# Altium integrated library Silicon Labs Capacitive Touch Sense MCUs.IntLib: 96 symbols (part 5 of 5)
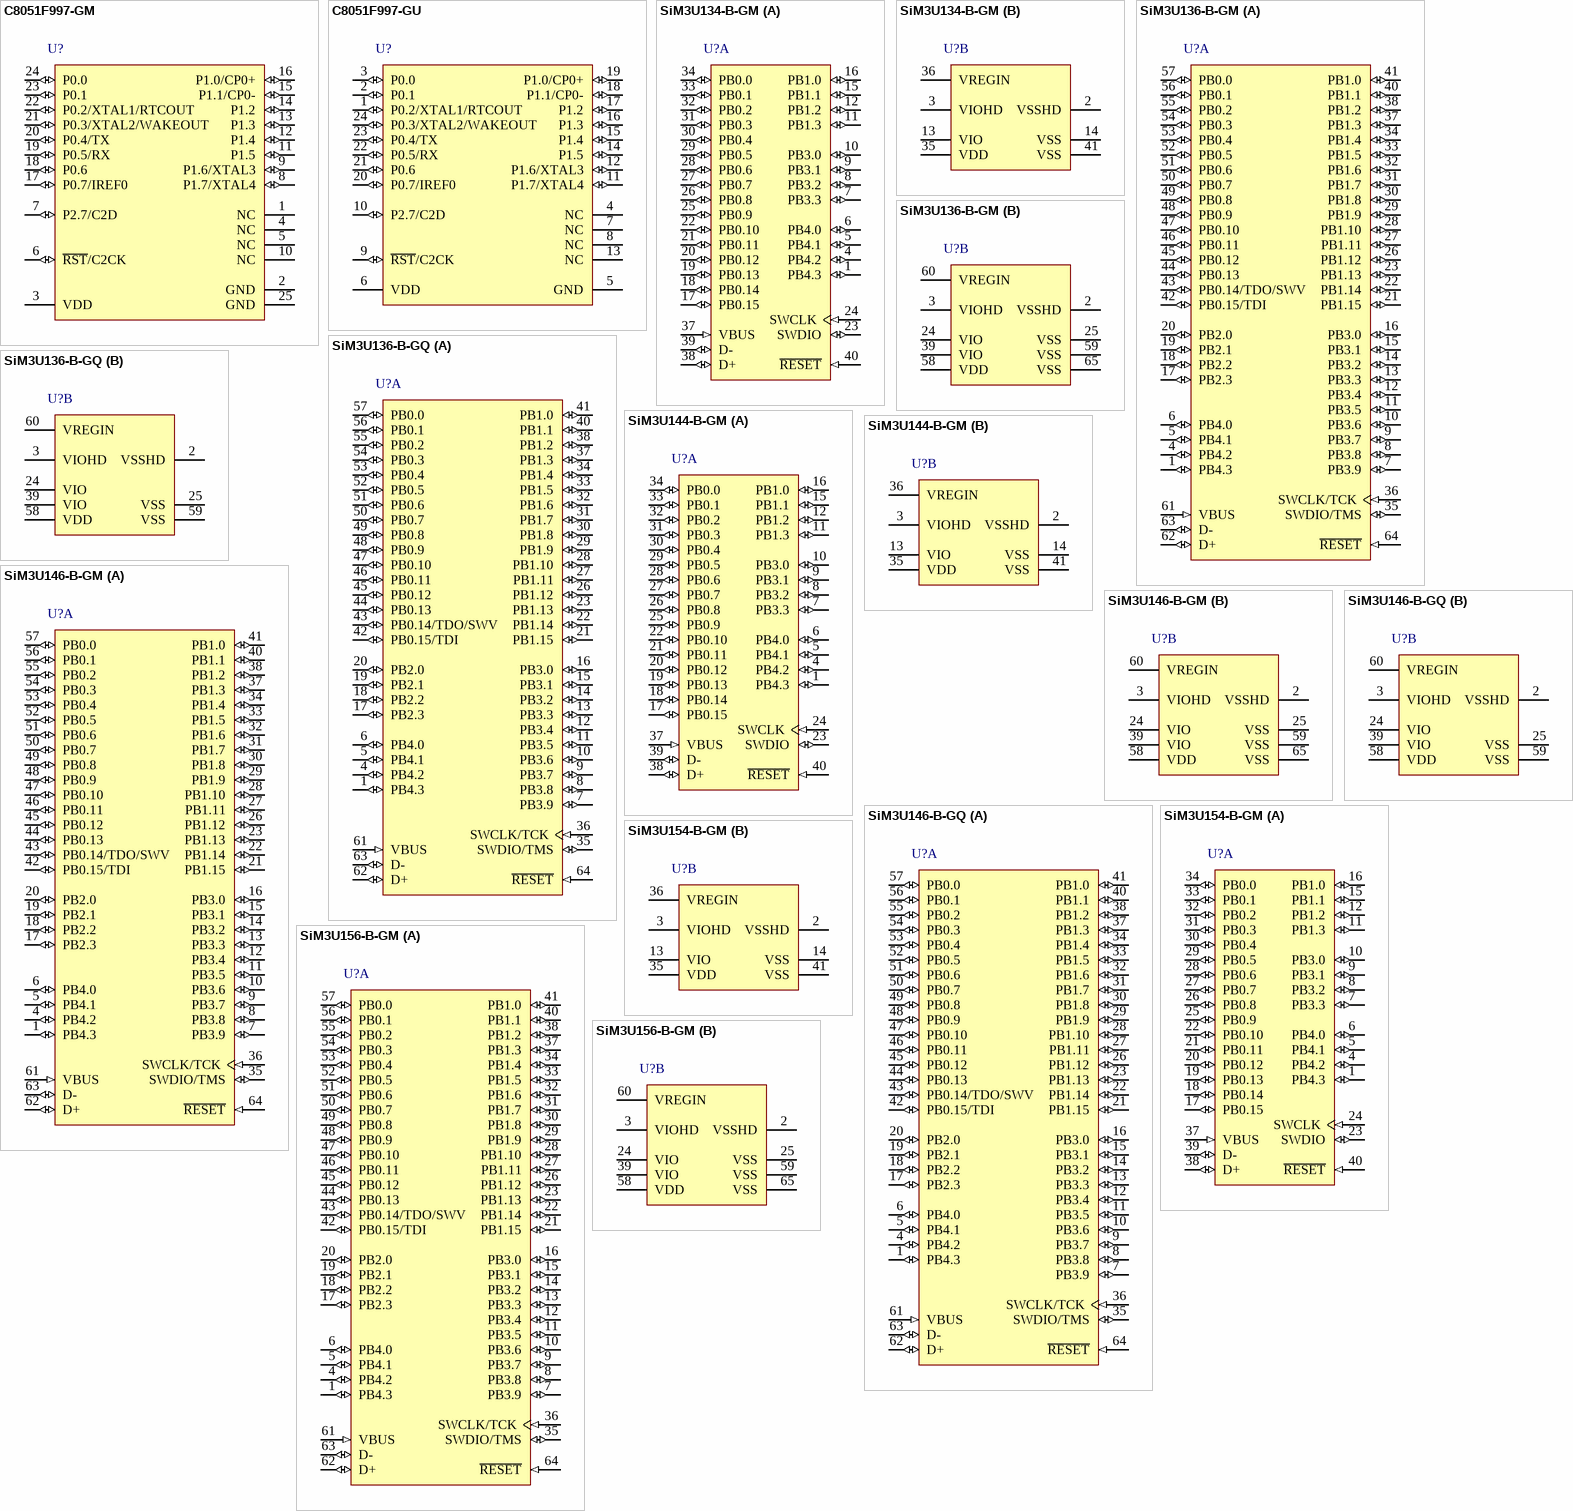
[diagram p10: symbols C8051F997-GM to SiM3U156-B-GM]

## SiM3U134-B-GM
designator U?
High-Performance, Low-Power, 32-Bit Precision32(TM) USB MCU Family, 80 MHz, 8 kB RAM, 32 kB Flash, -40 to 85 degC, 40-pin QFN; Manufacturer: Silicon Labs; PartNumber: SiM3U134-B-GM; ADC 1: 12-bit, 7-ch., 250 ksps; ADC 2: 12-bit, 11-ch., 250 ksps; Comparators: 2; DAC: 10-bit, 2-ch.; Debug Interface: SW; Dig I/O Pins: 28; Flash: 32 kB; Internal Osc. Accuracy: +/-1.5%; MCU Core: ARM Cortex-M3; MHz: 80; PCA Channels: 10; RAM: 8 kB; Temp Sensor: TRUE; Timers (16-bit): 5; Sub-Family: Capacitive Touch Sense MCUs; DatasheetVersion: Rev. 1.0; PackageReference: QFN-40; PackageDescription: 40-Pin Quad-Flat No-Leads Package, Body 6 x 6 mm, Pitch 0.5 mm; Supplier 1: Digi-Key; Supplier Part Number 1: 336-2202-ND; Supplier 2: Mouser; Supplier Part Number 2: 634-SIM3U134-B-GM; Mounting Technology: Surface Mount; Code_JEDEC: MO-220; Code_IPC: J-STD-020; ComponentLink1Description: Manufacturer URL; ComponentLink1URL: http://www.silabs.com/; ComponentLink2Description: Datasheet; ComponentLink2URL: http://www.silabs.com/Support Documents/TechnicalDocs/SiM3U1xx.pdf; ComponentLink3Description: Package Specification; ComponentLink3URL: http://www.silabs.com/Support%20Documents/TechnicalDocs/SiM3L1xx.pdf
footprint SLAB-QFN-40-4500x4500TP_N (QFN, 40-Leads, Body 6x6mm, Pitch 0.5mm, Thermal Pad 4.5x4.5mm, IPC Medium Density)
footprint SLAB-QFN-40-4500x4500TP_L (QFN, 40-Leads, Body 6x6mm, Pitch 0.5mm, Thermal Pad 4.5x4.5mm, IPC High Density)
footprint SLAB-QFN-40-4500x4500TP_M (QFN, 40-Leads, Body 6x6mm, Pitch 0.5mm, Thermal Pad 4.5x4.5mm, IPC Low Density)
part A pins: 1 PB4.3 (io), 4 PB4.2 (io), 5 PB4.1 (io), 6 PB4.0 (io), 7 PB3.3 (io), 8 PB3.2 (io), 9 PB3.1 (io), 10 PB3.0 (io), 11 PB1.3 (io), 12 PB1.2 (io), 15 PB1.1 (io), 16 PB1.0 (io), 17 PB0.15 (io), 18 PB0.14 (io), 19 PB0.13 (io), 20 PB0.12 (io), 21 PB0.11 (io), 22 PB0.10 (io), 23 SWDIO (io), 24 SWCLK (in), 25 PB0.9 (io), 26 PB0.8 (io), 27 PB0.7 (io), 28 PB0.6 (io), 29 PB0.5 (io), 30 PB0.4 (io), 31 PB0.3 (io), 32 PB0.2 (io), 33 PB0.1 (io), 34 PB0.0 (io), 37 VBUS (in), 38 D+ (io), 39 D- (io), 40 ~{RESET} (in)
part B pins: 2 VSSHD (power), 3 VIOHD (power), 13 VIO (power), 14 VSS (power), 35 VDD (power), 36 VREGIN (power), 41 VSS (power)

## SiM3U136-B-GM
designator U?
High-Performance, Low-Power, 32-Bit Precision32(TM) USB MCU Family, 80 MHz, 8 kB RAM, 32 kB Flash, -40 to 85 degC, 64-pin QFN; Manufacturer: Silicon Labs; PartNumber: SiM3U136-B-GM; ADC 1: 12-bit, 13-ch., 250 ksps; ADC 2: 12-bit, 15-ch., 250 ksps; Comparators: 2; DAC: 10-bit, 2-ch.; Debug Interface: JTAG; SW; Dig I/O Pins: 50; Flash: 32 kB; Internal Osc. Accuracy: +/-1.5%; MCU Core: ARM Cortex-M3; MHz: 80; PCA Channels: 10; RAM: 8 kB; Temp Sensor: TRUE; Timers (16-bit): 5; Sub-Family: Capacitive Touch Sense MCUs; DatasheetVersion: Rev. 1.0; PackageReference: QFN-64; PackageDescription: 64-Pin Quad-Flat No-Leads Package, Body 9 x 9 mm, Pitch 0.5 mm; Supplier 1: Digi-Key; Supplier Part Number 1: 336-2203-ND; Supplier 2: Mouser; Supplier Part Number 2: 634-SIM3U136-B-GM; Mounting Technology: Surface Mount; Code_JEDEC: MO-220; Code_IPC: J-STD-020; ComponentLink1Description: Manufacturer URL; ComponentLink1URL: http://www.silabs.com/; ComponentLink2Description: Datasheet; ComponentLink2URL: http://www.silabs.com/Support Documents/TechnicalDocs/SiM3U1xx.pdf; ComponentLink3Description: Package Specification; ComponentLink3URL: http://www.silabs.com/Support%20Documents/TechnicalDocs/SiM3U1xx.pdf
footprint SLAB-QFN-64-4100x4100TP_N (QFN, 64-Leads, Body 9x9mm, Pitch 0.5mm, Thermal Pad 4.1x4.1mm, IPC Medium Density)
footprint SLAB-QFN-64-4100x4100TP_L (QFN, 64-Leads, Body 9x9mm, Pitch 0.5mm, Thermal Pad 4.1x4.1mm, IPC High Density)
footprint SLAB-QFN-64-4100x4100TP_M (QFN, 64-Leads, Body 9x9mm, Pitch 0.5mm, Thermal Pad 4.1x4.1mm, IPC Low Density)
part A pins: 1 PB4.3 (io), 4 PB4.2 (io), 5 PB4.1 (io), 6 PB4.0 (io), 7 PB3.9 (io), 8 PB3.8 (io), 9 PB3.7 (io), 10 PB3.6 (io), 11 PB3.5 (io), 12 PB3.4 (io), 13 PB3.3 (io), 14 PB3.2 (io), 15 PB3.1 (io), 16 PB3.0 (io), 17 PB2.3 (io), 18 PB2.2 (io), 19 PB2.1 (io), 20 PB2.0 (io), 21 PB1.15 (io), 22 PB1.14 (io), 23 PB1.13 (io), 26 PB1.12 (io), 27 PB1.11 (io), 28 PB1.10 (io), 29 PB1.9 (io), 30 PB1.8 (io), 31 PB1.7 (io), 32 PB1.6 (io), 33 PB1.5 (io), 34 PB1.4 (io), 35 SWDIO/TMS (io), 36 SWCLK/TCK (in), 37 PB1.3 (io), 38 PB1.2 (io), 40 PB1.1 (io), 41 PB1.0 (io), 42 PB0.15/TDI (io), 43 PB0.14/TDO/SWV (io), 44 PB0.13 (io), 45 PB0.12 (io), 46 PB0.11 (io), 47 PB0.10 (io), 48 PB0.9 (io), 49 PB0.8 (io), 50 PB0.7 (io), 51 PB0.6 (io), 52 PB0.5 (io), 53 PB0.4 (io), 54 PB0.3 (io), 55 PB0.2 (io), 56 PB0.1 (io), 57 PB0.0 (io), 61 VBUS (in), 62 D+ (io), 63 D- (io), 64 ~{RESET} (in)
part B pins: 2 VSSHD (power), 3 VIOHD (power), 24 VIO (power), 25 VSS (power), 39 VIO (power), 58 VDD (power), 59 VSS (power), 60 VREGIN (power), 65 VSS (power)

## SiM3U136-B-GQ
designator U?
High-Performance, Low-Power, 32-Bit Precision32(TM) USB MCU Family, 80 MHz, 8 kB RAM, 32 kB Flash, -40 to 85 degC, 64-pin QFP; Manufacturer: Silicon Labs; PartNumber: SiM3U136-B-GQ; ADC 1: 12-bit, 13-ch., 250 ksps; ADC 2: 12-bit, 15-ch., 250 ksps; Comparators: 2; DAC: 10-bit, 2-ch.; Debug Interface: JTAG; SW; Dig I/O Pins: 50; Flash: 32 kB; Internal Osc. Accuracy: +/-1.5%; MCU Core: ARM Cortex-M3; MHz: 80; PCA Channels: 10; RAM: 8 kB; Temp Sensor: TRUE; Timers (16-bit): 5; Sub-Family: Capacitive Touch Sense MCUs; DatasheetVersion: Rev. 1.0; PackageReference: TQFP-64; PackageDescription: 64-Pin Thin Quad Flat Package, Body 10 x 10 mm, Pitch 0.5 mm; Supplier 1: Digi-Key; Supplier Part Number 1: 336-2204-ND; Supplier 2: Mouser; Supplier Part Number 2: 634-SIM3U136-B-GQ; Mounting Technology: Surface Mount; Code_JEDEC: MS-026; Code_IPC: J-STD-020; ComponentLink1Description: Manufacturer URL; ComponentLink1URL: http://www.silabs.com/; ComponentLink2Description: Datasheet; ComponentLink2URL: http://www.silabs.com/Support Documents/TechnicalDocs/SiM3U1xx.pdf; ComponentLink3Description: Package Specification; ComponentLink3URL: http://www.silabs.com/Support%20Documents/TechnicalDocs/C8051F70x.pdf
footprint SLAB-TQFP-64_N (QFP, 64-Leads, Body 10x10mm, Pitch 0.5mm, IPC Medium Density)
footprint SLAB-TQFP-64_L (QFP, 64-Leads, Body 10x10mm, Pitch 0.5mm, IPC High Density)
footprint SLAB-TQFP-64_M (QFP, 64-Leads, Body 10x10mm, Pitch 0.5mm, IPC Low Density)
part A pins: 1 PB4.3 (io), 4 PB4.2 (io), 5 PB4.1 (io), 6 PB4.0 (io), 7 PB3.9 (io), 8 PB3.8 (io), 9 PB3.7 (io), 10 PB3.6 (io), 11 PB3.5 (io), 12 PB3.4 (io), 13 PB3.3 (io), 14 PB3.2 (io), 15 PB3.1 (io), 16 PB3.0 (io), 17 PB2.3 (io), 18 PB2.2 (io), 19 PB2.1 (io), 20 PB2.0 (io), 21 PB1.15 (io), 22 PB1.14 (io), 23 PB1.13 (io), 26 PB1.12 (io), 27 PB1.11 (io), 28 PB1.10 (io), 29 PB1.9 (io), 30 PB1.8 (io), 31 PB1.7 (io), 32 PB1.6 (io), 33 PB1.5 (io), 34 PB1.4 (io), 35 SWDIO/TMS (io), 36 SWCLK/TCK (in), 37 PB1.3 (io), 38 PB1.2 (io), 40 PB1.1 (io), 41 PB1.0 (io), 42 PB0.15/TDI (io), 43 PB0.14/TDO/SWV (io), 44 PB0.13 (io), 45 PB0.12 (io), 46 PB0.11 (io), 47 PB0.10 (io), 48 PB0.9 (io), 49 PB0.8 (io), 50 PB0.7 (io), 51 PB0.6 (io), 52 PB0.5 (io), 53 PB0.4 (io), 54 PB0.3 (io), 55 PB0.2 (io), 56 PB0.1 (io), 57 PB0.0 (io), 61 VBUS (in), 62 D+ (io), 63 D- (io), 64 ~{RESET} (in)
part B pins: 2 VSSHD (power), 3 VIOHD (power), 24 VIO (power), 25 VSS (power), 39 VIO (power), 58 VDD (power), 59 VSS (power), 60 VREGIN (power)

## SiM3U144-B-GM
designator U?
High-Performance, Low-Power, 32-Bit Precision32(TM) USB MCU Family, 80 MHz, 16 kB RAM, 64 kB Flash, -40 to 85 degC, 40-pin QFN; Manufacturer: Silicon Labs; PartNumber: SiM3U144-B-GM; ADC 1: 12-bit, 7-ch., 250 ksps; ADC 2: 12-bit, 11-ch., 250 ksps; Comparators: 2; DAC: 10-bit, 2-ch.; Debug Interface: SW; Dig I/O Pins: 28; Flash: 64 kB; Internal Osc. Accuracy: +/-1.5%; MCU Core: ARM Cortex-M3; MHz: 80; PCA Channels: 10; RAM: 16 kB; Temp Sensor: TRUE; Timers (16-bit): 5; Sub-Family: Capacitive Touch Sense MCUs; DatasheetVersion: Rev. 1.0; PackageReference: QFN-40; PackageDescription: 40-Pin Quad-Flat No-Leads Package, Body 6 x 6 mm, Pitch 0.5 mm; Supplier 1: Digi-Key; Supplier Part Number 1: 336-2205-ND; Supplier 2: Mouser; Supplier Part Number 2: 634-SIM3U144-B-GM; Mounting Technology: Surface Mount; Code_JEDEC: MO-220; Code_IPC: J-STD-020; ComponentLink1Description: Manufacturer URL; ComponentLink1URL: http://www.silabs.com/; ComponentLink2Description: Datasheet; ComponentLink2URL: http://www.silabs.com/Support Documents/TechnicalDocs/SiM3U1xx.pdf; ComponentLink3Description: Package Specification; ComponentLink3URL: http://www.silabs.com/Support%20Documents/TechnicalDocs/SiM3L1xx.pdf
footprint SLAB-QFN-40-4500x4500TP_N (QFN, 40-Leads, Body 6x6mm, Pitch 0.5mm, Thermal Pad 4.5x4.5mm, IPC Medium Density)
footprint SLAB-QFN-40-4500x4500TP_L (QFN, 40-Leads, Body 6x6mm, Pitch 0.5mm, Thermal Pad 4.5x4.5mm, IPC High Density)
footprint SLAB-QFN-40-4500x4500TP_M (QFN, 40-Leads, Body 6x6mm, Pitch 0.5mm, Thermal Pad 4.5x4.5mm, IPC Low Density)
part A pins: 1 PB4.3 (io), 4 PB4.2 (io), 5 PB4.1 (io), 6 PB4.0 (io), 7 PB3.3 (io), 8 PB3.2 (io), 9 PB3.1 (io), 10 PB3.0 (io), 11 PB1.3 (io), 12 PB1.2 (io), 15 PB1.1 (io), 16 PB1.0 (io), 17 PB0.15 (io), 18 PB0.14 (io), 19 PB0.13 (io), 20 PB0.12 (io), 21 PB0.11 (io), 22 PB0.10 (io), 23 SWDIO (io), 24 SWCLK (in), 25 PB0.9 (io), 26 PB0.8 (io), 27 PB0.7 (io), 28 PB0.6 (io), 29 PB0.5 (io), 30 PB0.4 (io), 31 PB0.3 (io), 32 PB0.2 (io), 33 PB0.1 (io), 34 PB0.0 (io), 37 VBUS (in), 38 D+ (io), 39 D- (io), 40 ~{RESET} (in)
part B pins: 2 VSSHD (power), 3 VIOHD (power), 13 VIO (power), 14 VSS (power), 35 VDD (power), 36 VREGIN (power), 41 VSS (power)

## SiM3U146-B-GM
designator U?
High-Performance, Low-Power, 32-Bit Precision32(TM) USB MCU Family, 80 MHz, 16 kB RAM, 64 kB Flash, -40 to 85 degC, 64-pin QFN; Manufacturer: Silicon Labs; PartNumber: SiM3U146-B-GM; ADC 1: 12-bit, 13-ch., 250 ksps; ADC 2: 12-bit, 15-ch., 250 ksps; Comparators: 2; DAC: 10-bit, 2-ch.; Debug Interface: JTAG; SW; Dig I/O Pins: 50; Flash: 64 kB; Internal Osc. Accuracy: +/-1.5%; MCU Core: ARM Cortex-M3; MHz: 80; PCA Channels: 10; RAM: 16 kB; Temp Sensor: TRUE; Timers (16-bit): 5; Sub-Family: Capacitive Touch Sense MCUs; DatasheetVersion: Rev. 1.0; PackageReference: QFN-64; PackageDescription: 64-Pin Quad-Flat No-Leads Package, Body 9 x 9 mm, Pitch 0.5 mm; Supplier 1: Digi-Key; Supplier Part Number 1: 336-2206-ND; Supplier 2: Mouser; Supplier Part Number 2: 634-SIM3U146-B-GM; Mounting Technology: Surface Mount; Code_JEDEC: MO-220; Code_IPC: J-STD-020; ComponentLink1Description: Manufacturer URL; ComponentLink1URL: http://www.silabs.com/; ComponentLink2Description: Datasheet; ComponentLink2URL: http://www.silabs.com/Support Documents/TechnicalDocs/SiM3U1xx.pdf; ComponentLink3Description: Package Specification; ComponentLink3URL: http://www.silabs.com/Support%20Documents/TechnicalDocs/SiM3U1xx.pdf
footprint SLAB-QFN-64-4100x4100TP_N (QFN, 64-Leads, Body 9x9mm, Pitch 0.5mm, Thermal Pad 4.1x4.1mm, IPC Medium Density)
footprint SLAB-QFN-64-4100x4100TP_L (QFN, 64-Leads, Body 9x9mm, Pitch 0.5mm, Thermal Pad 4.1x4.1mm, IPC High Density)
footprint SLAB-QFN-64-4100x4100TP_M (QFN, 64-Leads, Body 9x9mm, Pitch 0.5mm, Thermal Pad 4.1x4.1mm, IPC Low Density)
part A pins: 1 PB4.3 (io), 4 PB4.2 (io), 5 PB4.1 (io), 6 PB4.0 (io), 7 PB3.9 (io), 8 PB3.8 (io), 9 PB3.7 (io), 10 PB3.6 (io), 11 PB3.5 (io), 12 PB3.4 (io), 13 PB3.3 (io), 14 PB3.2 (io), 15 PB3.1 (io), 16 PB3.0 (io), 17 PB2.3 (io), 18 PB2.2 (io), 19 PB2.1 (io), 20 PB2.0 (io), 21 PB1.15 (io), 22 PB1.14 (io), 23 PB1.13 (io), 26 PB1.12 (io), 27 PB1.11 (io), 28 PB1.10 (io), 29 PB1.9 (io), 30 PB1.8 (io), 31 PB1.7 (io), 32 PB1.6 (io), 33 PB1.5 (io), 34 PB1.4 (io), 35 SWDIO/TMS (io), 36 SWCLK/TCK (in), 37 PB1.3 (io), 38 PB1.2 (io), 40 PB1.1 (io), 41 PB1.0 (io), 42 PB0.15/TDI (io), 43 PB0.14/TDO/SWV (io), 44 PB0.13 (io), 45 PB0.12 (io), 46 PB0.11 (io), 47 PB0.10 (io), 48 PB0.9 (io), 49 PB0.8 (io), 50 PB0.7 (io), 51 PB0.6 (io), 52 PB0.5 (io), 53 PB0.4 (io), 54 PB0.3 (io), 55 PB0.2 (io), 56 PB0.1 (io), 57 PB0.0 (io), 61 VBUS (in), 62 D+ (io), 63 D- (io), 64 ~{RESET} (in)
part B pins: 2 VSSHD (power), 3 VIOHD (power), 24 VIO (power), 25 VSS (power), 39 VIO (power), 58 VDD (power), 59 VSS (power), 60 VREGIN (power), 65 VSS (power)

## SiM3U146-B-GQ
designator U?
High-Performance, Low-Power, 32-Bit Precision32(TM) USB MCU Family, 80 MHz, 16 kB RAM, 64 kB Flash, -40 to 85 degC, 64-pin QFP; Manufacturer: Silicon Labs; PartNumber: SiM3U146-B-GQ; ADC 1: 12-bit, 13-ch., 250 ksps; ADC 2: 12-bit, 15-ch., 250 ksps; Comparators: 2; DAC: 10-bit, 2-ch.; Debug Interface: JTAG; SW; Dig I/O Pins: 50; Flash: 64 kB; Internal Osc. Accuracy: +/-1.5%; MCU Core: ARM Cortex-M3; MHz: 80; PCA Channels: 10; RAM: 16 kB; Temp Sensor: FALSE; Timers (16-bit): 5; Sub-Family: Capacitive Touch Sense MCUs; DatasheetVersion: Rev. 1.0; PackageReference: TQFP-64; PackageDescription: 64-Pin Thin Quad Flat Package, Body 10 x 10 mm, Pitch 0.5 mm; Supplier 1: Digi-Key; Supplier Part Number 1: 336-2207-ND; Supplier 2: Mouser; Supplier Part Number 2: 634-SIM3U146-B-GQ; Mounting Technology: Surface Mount; Code_JEDEC: MS-026; Code_IPC: J-STD-020; ComponentLink1Description: Manufacturer URL; ComponentLink1URL: http://www.silabs.com/; ComponentLink2Description: Datasheet; ComponentLink2URL: http://www.silabs.com/Support Documents/TechnicalDocs/SiM3U1xx.pdf; ComponentLink3Description: Package Specification; ComponentLink3URL: http://www.silabs.com/Support%20Documents/TechnicalDocs/C8051F70x.pdf
footprint SLAB-TQFP-64_N (QFP, 64-Leads, Body 10x10mm, Pitch 0.5mm, IPC Medium Density)
footprint SLAB-TQFP-64_L (QFP, 64-Leads, Body 10x10mm, Pitch 0.5mm, IPC High Density)
footprint SLAB-TQFP-64_M (QFP, 64-Leads, Body 10x10mm, Pitch 0.5mm, IPC Low Density)
part A pins: 1 PB4.3 (io), 4 PB4.2 (io), 5 PB4.1 (io), 6 PB4.0 (io), 7 PB3.9 (io), 8 PB3.8 (io), 9 PB3.7 (io), 10 PB3.6 (io), 11 PB3.5 (io), 12 PB3.4 (io), 13 PB3.3 (io), 14 PB3.2 (io), 15 PB3.1 (io), 16 PB3.0 (io), 17 PB2.3 (io), 18 PB2.2 (io), 19 PB2.1 (io), 20 PB2.0 (io), 21 PB1.15 (io), 22 PB1.14 (io), 23 PB1.13 (io), 26 PB1.12 (io), 27 PB1.11 (io), 28 PB1.10 (io), 29 PB1.9 (io), 30 PB1.8 (io), 31 PB1.7 (io), 32 PB1.6 (io), 33 PB1.5 (io), 34 PB1.4 (io), 35 SWDIO/TMS (io), 36 SWCLK/TCK (in), 37 PB1.3 (io), 38 PB1.2 (io), 40 PB1.1 (io), 41 PB1.0 (io), 42 PB0.15/TDI (io), 43 PB0.14/TDO/SWV (io), 44 PB0.13 (io), 45 PB0.12 (io), 46 PB0.11 (io), 47 PB0.10 (io), 48 PB0.9 (io), 49 PB0.8 (io), 50 PB0.7 (io), 51 PB0.6 (io), 52 PB0.5 (io), 53 PB0.4 (io), 54 PB0.3 (io), 55 PB0.2 (io), 56 PB0.1 (io), 57 PB0.0 (io), 61 VBUS (in), 62 D+ (io), 63 D- (io), 64 ~{RESET} (in)
part B pins: 2 VSSHD (power), 3 VIOHD (power), 24 VIO (power), 25 VSS (power), 39 VIO (power), 58 VDD (power), 59 VSS (power), 60 VREGIN (power)

## SiM3U154-B-GM
designator U?
High-Performance, Low-Power, 32-Bit Precision32(TM) USB MCU Family, 80 MHz, 32 kB RAM, 128 kB Flash, -40 to 85 degC, 40-pin QFN; Manufacturer: Silicon Labs; PartNumber: SiM3U154-B-GM; ADC 1: 12-bit, 7-ch., 250 ksps; ADC 2: 12-bit, 11-ch., 250 ksps; Comparators: 2; DAC: 10-bit, 2-ch.; Debug Interface: SW; Dig I/O Pins: 28; Flash: 128 kB; Internal Osc. Accuracy: +/-1.5%; MCU Core: ARM Cortex-M3; MHz: 80; PCA Channels: 10; RAM: 32 kB; Temp Sensor: TRUE; Timers (16-bit): 5; Sub-Family: Capacitive Touch Sense MCUs; DatasheetVersion: Rev. 1.0; PackageReference: QFN-40; PackageDescription: 40-Pin Quad-Flat No-Leads Package, Body 6 x 6 mm, Pitch 0.5 mm; Supplier 1: Digi-Key; Supplier Part Number 1: 336-2208-ND; Supplier 2: Mouser; Supplier Part Number 2: 634-SIM3U154-B-GM; Mounting Technology: Surface Mount; Code_JEDEC: MO-220; Code_IPC: J-STD-020; ComponentLink1Description: Manufacturer URL; ComponentLink1URL: http://www.silabs.com/; ComponentLink2Description: Datasheet; ComponentLink2URL: http://www.silabs.com/Support Documents/TechnicalDocs/SiM3U1xx.pdf; ComponentLink3Description: Package Specification; ComponentLink3URL: http://www.silabs.com/Support%20Documents/TechnicalDocs/SiM3L1xx.pdf
footprint SLAB-QFN-40-4500x4500TP_N (QFN, 40-Leads, Body 6x6mm, Pitch 0.5mm, Thermal Pad 4.5x4.5mm, IPC Medium Density)
footprint SLAB-QFN-40-4500x4500TP_L (QFN, 40-Leads, Body 6x6mm, Pitch 0.5mm, Thermal Pad 4.5x4.5mm, IPC High Density)
footprint SLAB-QFN-40-4500x4500TP_M (QFN, 40-Leads, Body 6x6mm, Pitch 0.5mm, Thermal Pad 4.5x4.5mm, IPC Low Density)
part A pins: 1 PB4.3 (io), 4 PB4.2 (io), 5 PB4.1 (io), 6 PB4.0 (io), 7 PB3.3 (io), 8 PB3.2 (io), 9 PB3.1 (io), 10 PB3.0 (io), 11 PB1.3 (io), 12 PB1.2 (io), 15 PB1.1 (io), 16 PB1.0 (io), 17 PB0.15 (io), 18 PB0.14 (io), 19 PB0.13 (io), 20 PB0.12 (io), 21 PB0.11 (io), 22 PB0.10 (io), 23 SWDIO (io), 24 SWCLK (in), 25 PB0.9 (io), 26 PB0.8 (io), 27 PB0.7 (io), 28 PB0.6 (io), 29 PB0.5 (io), 30 PB0.4 (io), 31 PB0.3 (io), 32 PB0.2 (io), 33 PB0.1 (io), 34 PB0.0 (io), 37 VBUS (in), 38 D+ (io), 39 D- (io), 40 ~{RESET} (in)
part B pins: 2 VSSHD (power), 3 VIOHD (power), 13 VIO (power), 14 VSS (power), 35 VDD (power), 36 VREGIN (power), 41 VSS (power)

## SiM3U156-B-GM
designator U?
High-Performance, Low-Power, 32-Bit Precision32(TM) USB MCU Family, 80 MHz, 32 kB RAM, 128 kB Flash, -40 to 85 degC, 64-pin QFN; Manufacturer: Silicon Labs; PartNumber: SiM3U156-B-GM; ADC 1: 12-bit, 13-ch., 250 ksps; ADC 2: 12-bit, 15-ch., 250 ksps; Comparators: 2; DAC: 10-bit, 2-ch.; Debug Interface: JTAG; SW; Dig I/O Pins: 50; Flash: 128 kB; Internal Osc. Accuracy: +/-1.5%; MCU Core: ARM Cortex-M3; MHz: 80; PCA Channels: 10; RAM: 32 kB; Temp Sensor: TRUE; Timers (16-bit): 5; Sub-Family: Capacitive Touch Sense MCUs; DatasheetVersion: Rev. 1.0; PackageReference: QFN-64; PackageDescription: 64-Pin Quad-Flat No-Leads Package, Body 9 x 9 mm, Pitch 0.5 mm; Supplier 1: Digi-Key; Supplier Part Number 1: 336-2209-ND; Supplier 2: Mouser; Supplier Part Number 2: 634-SIM3U156-B-GM; Mounting Technology: Surface Mount; Code_JEDEC: MO-220; Code_IPC: J-STD-020; ComponentLink1Description: Manufacturer URL; ComponentLink1URL: http://www.silabs.com/; ComponentLink2Description: Datasheet; ComponentLink2URL: http://www.silabs.com/Support Documents/TechnicalDocs/SiM3U1xx.pdf; ComponentLink3Description: Package Specification; ComponentLink3URL: http://www.silabs.com/Support%20Documents/TechnicalDocs/SiM3U1xx.pdf
footprint SLAB-QFN-64-4100x4100TP_N (QFN, 64-Leads, Body 9x9mm, Pitch 0.5mm, Thermal Pad 4.1x4.1mm, IPC Medium Density)
footprint SLAB-QFN-64-4100x4100TP_L (QFN, 64-Leads, Body 9x9mm, Pitch 0.5mm, Thermal Pad 4.1x4.1mm, IPC High Density)
footprint SLAB-QFN-64-4100x4100TP_M (QFN, 64-Leads, Body 9x9mm, Pitch 0.5mm, Thermal Pad 4.1x4.1mm, IPC Low Density)
part A pins: 1 PB4.3 (io), 4 PB4.2 (io), 5 PB4.1 (io), 6 PB4.0 (io), 7 PB3.9 (io), 8 PB3.8 (io), 9 PB3.7 (io), 10 PB3.6 (io), 11 PB3.5 (io), 12 PB3.4 (io), 13 PB3.3 (io), 14 PB3.2 (io), 15 PB3.1 (io), 16 PB3.0 (io), 17 PB2.3 (io), 18 PB2.2 (io), 19 PB2.1 (io), 20 PB2.0 (io), 21 PB1.15 (io), 22 PB1.14 (io), 23 PB1.13 (io), 26 PB1.12 (io), 27 PB1.11 (io), 28 PB1.10 (io), 29 PB1.9 (io), 30 PB1.8 (io), 31 PB1.7 (io), 32 PB1.6 (io), 33 PB1.5 (io), 34 PB1.4 (io), 35 SWDIO/TMS (io), 36 SWCLK/TCK (in), 37 PB1.3 (io), 38 PB1.2 (io), 40 PB1.1 (io), 41 PB1.0 (io), 42 PB0.15/TDI (io), 43 PB0.14/TDO/SWV (io), 44 PB0.13 (io), 45 PB0.12 (io), 46 PB0.11 (io), 47 PB0.10 (io), 48 PB0.9 (io), 49 PB0.8 (io), 50 PB0.7 (io), 51 PB0.6 (io), 52 PB0.5 (io), 53 PB0.4 (io), 54 PB0.3 (io), 55 PB0.2 (io), 56 PB0.1 (io), 57 PB0.0 (io), 61 VBUS (in), 62 D+ (io), 63 D- (io), 64 ~{RESET} (in)
part B pins: 2 VSSHD (power), 3 VIOHD (power), 24 VIO (power), 25 VSS (power), 39 VIO (power), 58 VDD (power), 59 VSS (power), 60 VREGIN (power), 65 VSS (power)

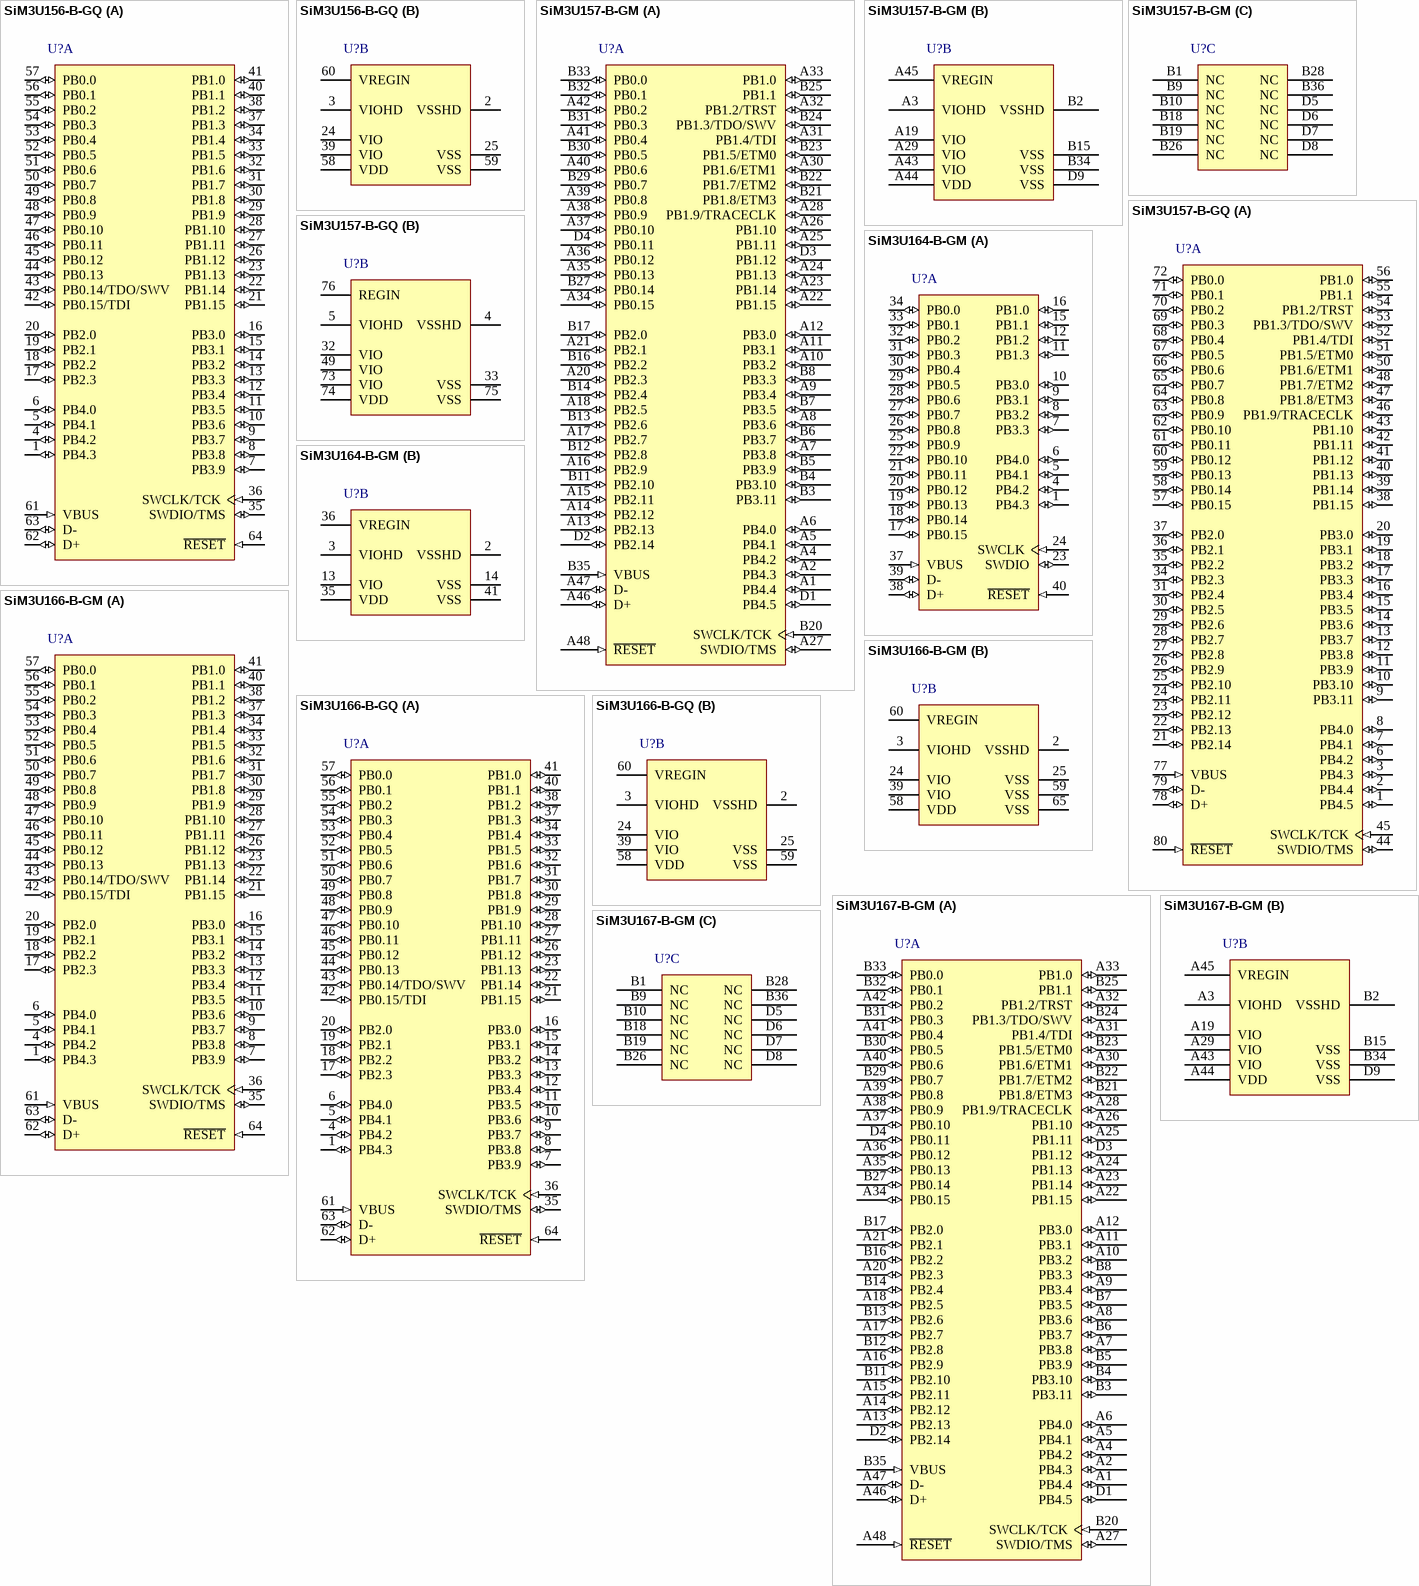
[diagram p5: symbols SiM3U156-B-GQ to SiM3U167-B-GM]

## SiM3U156-B-GQ
designator U?
High-Performance, Low-Power, 32-Bit Precision32(TM) USB MCU Family, 80 MHz, 32 kB RAM, 128 kB Flash, -40 to 85 degC, 64-pin QFP; Manufacturer: Silicon Labs; PartNumber: SiM3U156-B-GQ; ADC 1: 12-bit, 13-ch., 250 ksps; ADC 2: 12-bit, 15-ch., 250 ksps; Comparators: 2; DAC: 10-bit, 2-ch.; Debug Interface: JTAG; SW; Dig I/O Pins: 50; Flash: 128 kB; Internal Osc. Accuracy: +/-1.5%; MCU Core: ARM Cortex-M3; MHz: 80; PCA Channels: 10; RAM: 32 kB; Temp Sensor: TRUE; Timers (16-bit): 5; Sub-Family: Capacitive Touch Sense MCUs; DatasheetVersion: Rev. 1.0; PackageReference: TQFP-64; PackageDescription: 64-Pin Thin Quad Flat Package, Body 10 x 10 mm, Pitch 0.5 mm; Supplier 1: Digi-Key; Supplier Part Number 1: 336-2210-ND; Supplier 2: Mouser; Supplier Part Number 2: 634-SIM3U156-B-GQ; Mounting Technology: Surface Mount; Code_JEDEC: MS-026; Code_IPC: J-STD-020; ComponentLink1Description: Manufacturer URL; ComponentLink1URL: http://www.silabs.com/; ComponentLink2Description: Datasheet; ComponentLink2URL: http://www.silabs.com/Support Documents/TechnicalDocs/SiM3U1xx.pdf; ComponentLink3Description: Package Specification; ComponentLink3URL: http://www.silabs.com/Support%20Documents/TechnicalDocs/C8051F70x.pdf
footprint SLAB-TQFP-64_N (QFP, 64-Leads, Body 10x10mm, Pitch 0.5mm, IPC Medium Density)
footprint SLAB-TQFP-64_L (QFP, 64-Leads, Body 10x10mm, Pitch 0.5mm, IPC High Density)
footprint SLAB-TQFP-64_M (QFP, 64-Leads, Body 10x10mm, Pitch 0.5mm, IPC Low Density)
part A pins: 1 PB4.3 (io), 4 PB4.2 (io), 5 PB4.1 (io), 6 PB4.0 (io), 7 PB3.9 (io), 8 PB3.8 (io), 9 PB3.7 (io), 10 PB3.6 (io), 11 PB3.5 (io), 12 PB3.4 (io), 13 PB3.3 (io), 14 PB3.2 (io), 15 PB3.1 (io), 16 PB3.0 (io), 17 PB2.3 (io), 18 PB2.2 (io), 19 PB2.1 (io), 20 PB2.0 (io), 21 PB1.15 (io), 22 PB1.14 (io), 23 PB1.13 (io), 26 PB1.12 (io), 27 PB1.11 (io), 28 PB1.10 (io), 29 PB1.9 (io), 30 PB1.8 (io), 31 PB1.7 (io), 32 PB1.6 (io), 33 PB1.5 (io), 34 PB1.4 (io), 35 SWDIO/TMS (io), 36 SWCLK/TCK (in), 37 PB1.3 (io), 38 PB1.2 (io), 40 PB1.1 (io), 41 PB1.0 (io), 42 PB0.15/TDI (io), 43 PB0.14/TDO/SWV (io), 44 PB0.13 (io), 45 PB0.12 (io), 46 PB0.11 (io), 47 PB0.10 (io), 48 PB0.9 (io), 49 PB0.8 (io), 50 PB0.7 (io), 51 PB0.6 (io), 52 PB0.5 (io), 53 PB0.4 (io), 54 PB0.3 (io), 55 PB0.2 (io), 56 PB0.1 (io), 57 PB0.0 (io), 61 VBUS (in), 62 D+ (io), 63 D- (io), 64 ~{RESET} (in)
part B pins: 2 VSSHD (power), 3 VIOHD (power), 24 VIO (power), 25 VSS (power), 39 VIO (power), 58 VDD (power), 59 VSS (power), 60 VREGIN (power)

## SiM3U157-B-GM
designator U?
High-Performance, Low-Power, 32-Bit Precision32(TM) USB MCU Family, 80 MHz, 32 kB RAM, 128 kB Flash, -40 to 85 degC, 92-pin LGA; Manufacturer: Silicon Labs; PartNumber: SiM3U157-B-GM; ADC 1: 12-bit, 16-ch., 250 ksps; Comparators: 2; DAC: 10-bit, 2-ch.; Debug Interface: ETM; JTAG; SW; Dig I/O Pins: 65; Flash: 128 kB; Internal Osc. Accuracy: +/-1.5%; MCU Core: ARM Cortex-M3; MHz: 80; PCA Channels: 10; RAM: 32 kB; Temp Sensor: TRUE; Timers (16-bit): 5; Sub-Family: Capacitive Touch Sense MCUs; DatasheetVersion: Rev. 1.0; PackageReference: LGA-92; PackageDescription: 92-Pin Land Grid Array, Body 7 x 7 mm, Pitch 0.5 mm; Supplier 1: Digi-Key; Supplier Part Number 1: 336-2211-ND; Supplier 2: Mouser; Supplier Part Number 2: 634-SIM3U157-B-GM; ADC 2: 12-bit, 16-ch., 250 ksps; Mounting Technology: Surface Mount; Code_IPC: J-STD-020; ComponentLink1Description: Manufacturer URL; ComponentLink1URL: http://www.silabs.com/; ComponentLink2Description: Datasheet; ComponentLink2URL: http://www.silabs.com/Support Documents/TechnicalDocs/SiM3U1xx.pdf; ComponentLink3Description: Package Specification; ComponentLink3URL: http://www.silabs.com/Support Documents/TechnicalDocs/SiM3C1xx.pdf
footprint SLAB-LGA-92_V (LGA, 92-Leads, Body 7x7mm, Pitch 0.5mm, Thermal Pad 3.2x3.2mm)
part A pins: A1 PB4.4 (io), A2 PB4.3 (io), A4 PB4.2 (io), A5 PB4.1 (io), A6 PB4.0 (io), A7 PB3.8 (io), A8 PB3.6 (io), A9 PB3.4 (io), A10 PB3.2 (io), A11 PB3.1 (io), A12 PB3.0 (io), A13 PB2.13 (io), A14 PB2.12 (io), A15 PB2.11 (io), A16 PB2.9 (io), A17 PB2.7 (io), A18 PB2.5 (io), A20 PB2.3 (io), A21 PB2.1 (io), A22 PB1.15 (io), A23 PB1.14 (io), A24 PB1.13 (io), A25 PB1.11 (io), A26 PB1.10 (io), A27 SWDIO/TMS (io), A28 PB1.9/TRACECLK (io), A30 PB1.6/ETM1 (io), A31 PB1.4/TDI (io), A32 PB1.2/TRST (io), A33 PB1.0 (io), A34 PB0.15 (io), A35 PB0.13 (io), A36 PB0.12 (io), A37 PB0.10 (io), A38 PB0.9 (io), A39 PB0.8 (io), A40 PB0.6 (io), A41 PB0.4 (io), A42 PB0.2 (io), A46 D+ (io), A47 D- (io), A48 ~{RESET} (in), B3 PB3.11 (io), B4 PB3.10 (io), B5 PB3.9 (io), B6 PB3.7 (io), B7 PB3.5 (io), B8 PB3.3 (io), B11 PB2.10 (io), B12 PB2.8 (io), B13 PB2.6 (io), B14 PB2.4 (io), B16 PB2.2 (io), B17 PB2.0 (io), B20 SWCLK/TCK (in), B21 PB1.8/ETM3 (io), B22 PB1.7/ETM2 (io), B23 PB1.5/ETM0 (io), B24 PB1.3/TDO/SWV (io), B25 PB1.1 (io), B27 PB0.14 (io), B29 PB0.7 (io), B30 PB0.5 (io), B31 PB0.3 (io), B32 PB0.1 (io), B33 PB0.0 (io), B35 VBUS (in), D1 PB4.5 (io), D2 PB2.14 (io), D3 PB1.12 (io), D4 PB0.11 (io)
part B pins: A3 VIOHD (power), A19 VIO (power), A29 VIO (power), A43 VIO (power), A44 VDD (power), A45 VREGIN (power), B2 VSSHD (power), B15 VSS (power), B34 VSS (power), D9 VSS (power)
part C pins: B1 NC, B9 NC, B10 NC, B18 NC, B19 NC, B26 NC, B28 NC, B36 NC, D5 NC, D6 NC, D7 NC, D8 NC

## SiM3U157-B-GQ
designator U?
High-Performance, Low-Power, 32-Bit Precision32(TM) USB MCU Family, 80 MHz, 32 kB RAM, 128 kB Flash, -40 to 85 degC, 80-pin QFP; Manufacturer: Silicon Labs; PartNumber: SiM3U157-B-GQ; ADC 1: 12-bit, 16-ch., 250 ksps; Comparators: 2; DAC: 10-bit, 2-ch.; Debug Interface: ETM; JTAG; SW; Dig I/O Pins: 65; Flash: 128 kB; Internal Osc. Accuracy: +/-1.5%; MCU Core: ARM Cortex-M3; MHz: 80; PCA Channels: 10; RAM: 32 kB; Temp Sensor: TRUE; Timers (16-bit): 5; Sub-Family: Capacitive Touch Sense MCUs; DatasheetVersion: Rev. 1.0; PackageReference: TQFP-80; PackageDescription: 80-Pin Thin Quad Flat Package, Body 12 x 12 mm, Pitch 0.5 mm; Supplier 1: Digi-Key; Supplier Part Number 1: 336-2212-ND; Supplier 2: Mouser; Supplier Part Number 2: 634-SIM3U157-B-GQ; ADC 2: 12-bit, 16-ch., 250 ksps; Mounting Technology: Surface Mount; Code_JEDEC: MS-026; Code_IPC: J-STD-020; ComponentLink1Description: Manufacturer URL; ComponentLink1URL: http://www.silabs.com/; ComponentLink2Description: Datasheet; ComponentLink2URL: http://www.silabs.com/Support Documents/TechnicalDocs/SiM3U1xx.pdf; ComponentLink3Description: Package Specification; ComponentLink3URL: http://www.silabs.com/Support%20Documents/TechnicalDocs/SiM3L1xx.pdf
footprint SLAB-TQFP-80_N (QFP, 80-Leads, Body 12x12mm, Pitch 0.5mm, IPC Medium Density)
footprint SLAB-TQFP-80_L (QFP, 80-Leads, Body 12x12mm, Pitch 0.5mm, IPC High Density)
footprint SLAB-TQFP-80_M (QFP, 80-Leads, Body 12x12mm, Pitch 0.5mm, IPC Low Density)
part A pins: 1 PB4.5 (io), 2 PB4.4 (io), 3 PB4.3 (io), 6 PB4.2 (io), 7 PB4.1 (io), 8 PB4.0 (io), 9 PB3.11 (io), 10 PB3.10 (io), 11 PB3.9 (io), 12 PB3.8 (io), 13 PB3.7 (io), 14 PB3.6 (io), 15 PB3.5 (io), 16 PB3.4 (io), 17 PB3.3 (io), 18 PB3.2 (io), 19 PB3.1 (io), 20 PB3.0 (io), 21 PB2.14 (io), 22 PB2.13 (io), 23 PB2.12 (io), 24 PB2.11 (io), 25 PB2.10 (io), 26 PB2.9 (io), 27 PB2.8 (io), 28 PB2.7 (io), 29 PB2.6 (io), 30 PB2.5 (io), 31 PB2.4 (io), 34 PB2.3 (io), 35 PB2.2 (io), 36 PB2.1 (io), 37 PB2.0 (io), 38 PB1.15 (io), 39 PB1.14 (io), 40 PB1.13 (io), 41 PB1.12 (io), 42 PB1.11 (io), 43 PB1.10 (io), 44 SWDIO/TMS (io), 45 SWCLK/TCK (in), 46 PB1.9/TRACECLK (io), 47 PB1.8/ETM3 (io), 48 PB1.7/ETM2 (io), 50 PB1.6/ETM1 (io), 51 PB1.5/ETM0 (io), 52 PB1.4/TDI (io), 53 PB1.3/TDO/SWV (io), 54 PB1.2/TRST (io), 55 PB1.1 (io), 56 PB1.0 (io), 57 PB0.15 (io), 58 PB0.14 (io), 59 PB0.13 (io), 60 PB0.12 (io), 61 PB0.11 (io), 62 PB0.10 (io), 63 PB0.9 (io), 64 PB0.8 (io), 65 PB0.7 (io), 66 PB0.6 (io), 67 PB0.5 (io), 68 PB0.4 (io), 69 PB0.3 (io), 70 PB0.2 (io), 71 PB0.1 (io), 72 PB0.0 (io), 77 VBUS (in), 78 D+ (io), 79 D- (io), 80 ~{RESET} (in)
part B pins: 4 VSSHD (power), 5 VIOHD (power), 32 VIO (power), 33 VSS (power), 49 VIO (power), 73 VIO (power), 74 VDD (power), 75 VSS (power), 76 REGIN (power)

## SiM3U164-B-GM
designator U?
High-Performance, Low-Power, 32-Bit Precision32(TM) USB MCU Family, 80 MHz, 32 kB RAM, 256 kB Flash, -40 to 85 degC, 40-pin QFN; Manufacturer: Silicon Labs; PartNumber: SiM3U164-B-GM; ADC 1: 12-bit, 7-ch., 250 ksps; ADC 2: 12-bit, 11-ch., 250 ksps; Comparators: 2; DAC: 10-bit, 2-ch.; Debug Interface: SW; Dig I/O Pins: 28; Flash: 256 kB; Internal Osc. Accuracy: +/-1.5%; MCU Core: ARM Cortex-M3; MHz: 80; PCA Channels: 10; RAM: 32 kB; Temp Sensor: TRUE; Timers (16-bit): 5; Sub-Family: Capacitive Touch Sense MCUs; DatasheetVersion: Rev. 1.0; PackageReference: QFN-40; PackageDescription: 40-Pin Quad-Flat No-Leads Package, Body 6 x 6 mm, Pitch 0.5 mm; Supplier 1: Digi-Key; Supplier Part Number 1: 336-2213-ND; Supplier 2: Mouser; Supplier Part Number 2: 634-SIM3U164-B-GM; Mounting Technology: Surface Mount; Code_JEDEC: MO-220; Code_IPC: J-STD-020; ComponentLink1Description: Manufacturer URL; ComponentLink1URL: http://www.silabs.com/; ComponentLink2Description: Datasheet; ComponentLink2URL: http://www.silabs.com/Support Documents/TechnicalDocs/SiM3U1xx.pdf; ComponentLink3Description: Package Specification; ComponentLink3URL: http://www.silabs.com/Support%20Documents/TechnicalDocs/SiM3L1xx.pdf
footprint SLAB-QFN-40-4500x4500TP_N (QFN, 40-Leads, Body 6x6mm, Pitch 0.5mm, Thermal Pad 4.5x4.5mm, IPC Medium Density)
footprint SLAB-QFN-40-4500x4500TP_L (QFN, 40-Leads, Body 6x6mm, Pitch 0.5mm, Thermal Pad 4.5x4.5mm, IPC High Density)
footprint SLAB-QFN-40-4500x4500TP_M (QFN, 40-Leads, Body 6x6mm, Pitch 0.5mm, Thermal Pad 4.5x4.5mm, IPC Low Density)
part A pins: 1 PB4.3 (io), 4 PB4.2 (io), 5 PB4.1 (io), 6 PB4.0 (io), 7 PB3.3 (io), 8 PB3.2 (io), 9 PB3.1 (io), 10 PB3.0 (io), 11 PB1.3 (io), 12 PB1.2 (io), 15 PB1.1 (io), 16 PB1.0 (io), 17 PB0.15 (io), 18 PB0.14 (io), 19 PB0.13 (io), 20 PB0.12 (io), 21 PB0.11 (io), 22 PB0.10 (io), 23 SWDIO (io), 24 SWCLK (in), 25 PB0.9 (io), 26 PB0.8 (io), 27 PB0.7 (io), 28 PB0.6 (io), 29 PB0.5 (io), 30 PB0.4 (io), 31 PB0.3 (io), 32 PB0.2 (io), 33 PB0.1 (io), 34 PB0.0 (io), 37 VBUS (in), 38 D+ (io), 39 D- (io), 40 ~{RESET} (in)
part B pins: 2 VSSHD (power), 3 VIOHD (power), 13 VIO (power), 14 VSS (power), 35 VDD (power), 36 VREGIN (power), 41 VSS (power)

## SiM3U166-B-GM
designator U?
High-Performance, Low-Power, 32-Bit Precision32(TM) USB MCU Family, 80 MHz, 32 kB RAM, 256 kB Flash, -40 to 85 degC, 64-pin QFN; Manufacturer: Silicon Labs; PartNumber: SiM3U166-B-GM; ADC 1: 12-bit, 13-ch., 250 ksps; ADC 2: 12-bit, 15-ch., 250 ksps; Comparators: 2; DAC: 10-bit, 2-ch.; Debug Interface: JTAG; SW; Dig I/O Pins: 50; Flash: 256 kB; Internal Osc. Accuracy: +/-1.5%; MCU Core: ARM Cortex-M3; MHz: 80; PCA Channels: 10; RAM: 32 kB; Temp Sensor: FALSE; Timers (16-bit): 5; Sub-Family: Capacitive Touch Sense MCUs; DatasheetVersion: Rev. 1.0; PackageReference: QFN-64; PackageDescription: 64-Pin Quad-Flat No-Leads Package, Body 9 x 9 mm, Pitch 0.5 mm; Supplier 1: Digi-Key; Supplier Part Number 1: 336-2214-ND; Supplier 2: Mouser; Supplier Part Number 2: 634-SIM3U166-B-GM; Mounting Technology: Surface Mount; Code_JEDEC: MO-220; Code_IPC: J-STD-020; ComponentLink1Description: Manufacturer URL; ComponentLink1URL: http://www.silabs.com/; ComponentLink2Description: Datasheet; ComponentLink2URL: http://www.silabs.com/Support Documents/TechnicalDocs/SiM3U1xx.pdf; ComponentLink3Description: Package Specification; ComponentLink3URL: http://www.silabs.com/Support%20Documents/TechnicalDocs/SiM3U1xx.pdf
footprint SLAB-QFN-64-4100x4100TP_N (QFN, 64-Leads, Body 9x9mm, Pitch 0.5mm, Thermal Pad 4.1x4.1mm, IPC Medium Density)
footprint SLAB-QFN-64-4100x4100TP_L (QFN, 64-Leads, Body 9x9mm, Pitch 0.5mm, Thermal Pad 4.1x4.1mm, IPC High Density)
footprint SLAB-QFN-64-4100x4100TP_M (QFN, 64-Leads, Body 9x9mm, Pitch 0.5mm, Thermal Pad 4.1x4.1mm, IPC Low Density)
part A pins: 1 PB4.3 (io), 4 PB4.2 (io), 5 PB4.1 (io), 6 PB4.0 (io), 7 PB3.9 (io), 8 PB3.8 (io), 9 PB3.7 (io), 10 PB3.6 (io), 11 PB3.5 (io), 12 PB3.4 (io), 13 PB3.3 (io), 14 PB3.2 (io), 15 PB3.1 (io), 16 PB3.0 (io), 17 PB2.3 (io), 18 PB2.2 (io), 19 PB2.1 (io), 20 PB2.0 (io), 21 PB1.15 (io), 22 PB1.14 (io), 23 PB1.13 (io), 26 PB1.12 (io), 27 PB1.11 (io), 28 PB1.10 (io), 29 PB1.9 (io), 30 PB1.8 (io), 31 PB1.7 (io), 32 PB1.6 (io), 33 PB1.5 (io), 34 PB1.4 (io), 35 SWDIO/TMS (io), 36 SWCLK/TCK (in), 37 PB1.3 (io), 38 PB1.2 (io), 40 PB1.1 (io), 41 PB1.0 (io), 42 PB0.15/TDI (io), 43 PB0.14/TDO/SWV (io), 44 PB0.13 (io), 45 PB0.12 (io), 46 PB0.11 (io), 47 PB0.10 (io), 48 PB0.9 (io), 49 PB0.8 (io), 50 PB0.7 (io), 51 PB0.6 (io), 52 PB0.5 (io), 53 PB0.4 (io), 54 PB0.3 (io), 55 PB0.2 (io), 56 PB0.1 (io), 57 PB0.0 (io), 61 VBUS (in), 62 D+ (io), 63 D- (io), 64 ~{RESET} (in)
part B pins: 2 VSSHD (power), 3 VIOHD (power), 24 VIO (power), 25 VSS (power), 39 VIO (power), 58 VDD (power), 59 VSS (power), 60 VREGIN (power), 65 VSS (power)

## SiM3U166-B-GQ
designator U?
High-Performance, Low-Power, 32-Bit Precision32(TM) USB MCU Family, 80 MHz, 32 kB RAM, 256 kB Flash, -40 to 85 degC, 64-pin QFP; Manufacturer: Silicon Labs; PartNumber: SiM3U166-B-GQ; ADC 1: 12-bit, 13-ch., 250 ksps; ADC 2: 12-bit, 15-ch., 250 ksps; Comparators: 2; DAC: 10-bit, 2-ch.; Debug Interface: JTAG; SW; Dig I/O Pins: 50; Flash: 256 kB; Internal Osc. Accuracy: +/-1.5%; MCU Core: ARM Cortex-M3; MHz: 80; PCA Channels: 10; RAM: 32 kB; Temp Sensor: TRUE; Timers (16-bit): 5; Sub-Family: Capacitive Touch Sense MCUs; DatasheetVersion: Rev. 1.0; PackageReference: TQFP-64; PackageDescription: 64-Pin Thin Quad Flat Package, Body 10 x 10 mm, Pitch 0.5 mm; Supplier 1: Digi-Key; Supplier Part Number 1: 336-2215-ND; Supplier 2: Mouser; Supplier Part Number 2: 634-SIM3U166-B-GQ; Mounting Technology: Surface Mount; Code_JEDEC: MS-026; Code_IPC: J-STD-020; ComponentLink1Description: Manufacturer URL; ComponentLink1URL: http://www.silabs.com/; ComponentLink2Description: Datasheet; ComponentLink2URL: http://www.silabs.com/Support Documents/TechnicalDocs/SiM3U1xx.pdf; ComponentLink3Description: Package Specification; ComponentLink3URL: http://www.silabs.com/Support%20Documents/TechnicalDocs/C8051F70x.pdf
footprint SLAB-TQFP-64_N (QFP, 64-Leads, Body 10x10mm, Pitch 0.5mm, IPC Medium Density)
footprint SLAB-TQFP-64_L (QFP, 64-Leads, Body 10x10mm, Pitch 0.5mm, IPC High Density)
footprint SLAB-TQFP-64_M (QFP, 64-Leads, Body 10x10mm, Pitch 0.5mm, IPC Low Density)
part A pins: 1 PB4.3 (io), 4 PB4.2 (io), 5 PB4.1 (io), 6 PB4.0 (io), 7 PB3.9 (io), 8 PB3.8 (io), 9 PB3.7 (io), 10 PB3.6 (io), 11 PB3.5 (io), 12 PB3.4 (io), 13 PB3.3 (io), 14 PB3.2 (io), 15 PB3.1 (io), 16 PB3.0 (io), 17 PB2.3 (io), 18 PB2.2 (io), 19 PB2.1 (io), 20 PB2.0 (io), 21 PB1.15 (io), 22 PB1.14 (io), 23 PB1.13 (io), 26 PB1.12 (io), 27 PB1.11 (io), 28 PB1.10 (io), 29 PB1.9 (io), 30 PB1.8 (io), 31 PB1.7 (io), 32 PB1.6 (io), 33 PB1.5 (io), 34 PB1.4 (io), 35 SWDIO/TMS (io), 36 SWCLK/TCK (in), 37 PB1.3 (io), 38 PB1.2 (io), 40 PB1.1 (io), 41 PB1.0 (io), 42 PB0.15/TDI (io), 43 PB0.14/TDO/SWV (io), 44 PB0.13 (io), 45 PB0.12 (io), 46 PB0.11 (io), 47 PB0.10 (io), 48 PB0.9 (io), 49 PB0.8 (io), 50 PB0.7 (io), 51 PB0.6 (io), 52 PB0.5 (io), 53 PB0.4 (io), 54 PB0.3 (io), 55 PB0.2 (io), 56 PB0.1 (io), 57 PB0.0 (io), 61 VBUS (in), 62 D+ (io), 63 D- (io), 64 ~{RESET} (in)
part B pins: 2 VSSHD (power), 3 VIOHD (power), 24 VIO (power), 25 VSS (power), 39 VIO (power), 58 VDD (power), 59 VSS (power), 60 VREGIN (power)

## SiM3U167-B-GM
designator U?
High-Performance, Low-Power, 32-Bit Precision32(TM) USB MCU Family, 80 MHz, 32 kB RAM, 256 kB Flash, -40 to 85 degC, 92-pin LGA; Manufacturer: Silicon Labs; PartNumber: SiM3U167-B-GM; ADC 1: 12-bit, 16-ch., 250 ksps; Comparators: 2; DAC: 10-bit, 2-ch.; Debug Interface: ETM; JTAG; SW; Dig I/O Pins: 65; Flash: 256 kB; Internal Osc. Accuracy: +/-1.5%; MCU Core: ARM Cortex-M3; MHz: 80; PCA Channels: 10; RAM: 32 kB; Temp Sensor: TRUE; Timers (16-bit): 5; Sub-Family: Capacitive Touch Sense MCUs; DatasheetVersion: Rev. 1.0; PackageReference: LGA-92; PackageDescription: 92-Pin Land Grid Array, Body 7 x 7 mm, Pitch 0.5 mm; Supplier 1: Digi-Key; Supplier Part Number 1: 336-2216-ND; Supplier 2: Mouser; Supplier Part Number 2: 634-SIM3U167-B-GM; ADC 2: 12-bit, 16-ch., 250 ksps; Mounting Technology: Surface Mount; Code_IPC: J-STD-020; ComponentLink1Description: Manufacturer URL; ComponentLink1URL: http://www.silabs.com/; ComponentLink2Description: Datasheet; ComponentLink2URL: http://www.silabs.com/Support Documents/TechnicalDocs/SiM3U1xx.pdf; ComponentLink3Description: Package Specification; ComponentLink3URL: http://www.silabs.com/Support Documents/TechnicalDocs/SiM3C1xx.pdf
footprint SLAB-LGA-92_V (LGA, 92-Leads, Body 7x7mm, Pitch 0.5mm, Thermal Pad 3.2x3.2mm)
part A pins: A1 PB4.4 (io), A2 PB4.3 (io), A4 PB4.2 (io), A5 PB4.1 (io), A6 PB4.0 (io), A7 PB3.8 (io), A8 PB3.6 (io), A9 PB3.4 (io), A10 PB3.2 (io), A11 PB3.1 (io), A12 PB3.0 (io), A13 PB2.13 (io), A14 PB2.12 (io), A15 PB2.11 (io), A16 PB2.9 (io), A17 PB2.7 (io), A18 PB2.5 (io), A20 PB2.3 (io), A21 PB2.1 (io), A22 PB1.15 (io), A23 PB1.14 (io), A24 PB1.13 (io), A25 PB1.11 (io), A26 PB1.10 (io), A27 SWDIO/TMS (io), A28 PB1.9/TRACECLK (io), A30 PB1.6/ETM1 (io), A31 PB1.4/TDI (io), A32 PB1.2/TRST (io), A33 PB1.0 (io), A34 PB0.15 (io), A35 PB0.13 (io), A36 PB0.12 (io), A37 PB0.10 (io), A38 PB0.9 (io), A39 PB0.8 (io), A40 PB0.6 (io), A41 PB0.4 (io), A42 PB0.2 (io), A46 D+ (io), A47 D- (io), A48 ~{RESET} (in), B3 PB3.11 (io), B4 PB3.10 (io), B5 PB3.9 (io), B6 PB3.7 (io), B7 PB3.5 (io), B8 PB3.3 (io), B11 PB2.10 (io), B12 PB2.8 (io), B13 PB2.6 (io), B14 PB2.4 (io), B16 PB2.2 (io), B17 PB2.0 (io), B20 SWCLK/TCK (in), B21 PB1.8/ETM3 (io), B22 PB1.7/ETM2 (io), B23 PB1.5/ETM0 (io), B24 PB1.3/TDO/SWV (io), B25 PB1.1 (io), B27 PB0.14 (io), B29 PB0.7 (io), B30 PB0.5 (io), B31 PB0.3 (io), B32 PB0.1 (io), B33 PB0.0 (io), B35 VBUS (in), D1 PB4.5 (io), D2 PB2.14 (io), D3 PB1.12 (io), D4 PB0.11 (io)
part B pins: A3 VIOHD (power), A19 VIO (power), A29 VIO (power), A43 VIO (power), A44 VDD (power), A45 VREGIN (power), B2 VSSHD (power), B15 VSS (power), B34 VSS (power), D9 VSS (power)
part C pins: B1 NC, B9 NC, B10 NC, B18 NC, B19 NC, B26 NC, B28 NC, B36 NC, D5 NC, D6 NC, D7 NC, D8 NC

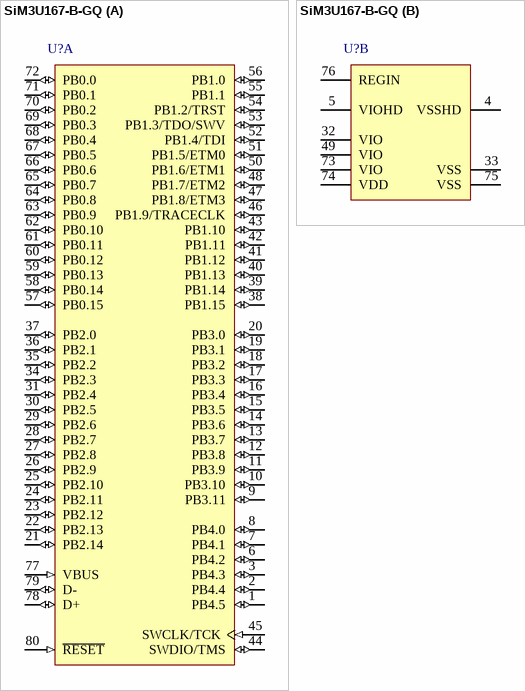
[diagram p6: symbol SiM3U167-B-GQ]

## SiM3U167-B-GQ
designator U?
High-Performance, Low-Power, 32-Bit Precision32(TM) USB MCU Family, 80 MHz, 32 kB RAM, 256 kB Flash, -40 to 85 degC, 80-pin QFP; Manufacturer: Silicon Labs; PartNumber: SiM3U167-B-GQ; ADC 1: 12-bit, 16-ch., 250 ksps; Comparators: 2; DAC: 10-bit, 2-ch.; Debug Interface: ETM; JTAG; SW; Dig I/O Pins: 65; Flash: 256 kB; Internal Osc. Accuracy: +/-1.5%; MCU Core: ARM Cortex-M3; MHz: 80; PCA Channels: 10; RAM: 32 kB; Temp Sensor: TRUE; Timers (16-bit): 5; Sub-Family: Capacitive Touch Sense MCUs; DatasheetVersion: Rev. 1.0; PackageReference: TQFP-80; PackageDescription: 80-Pin Thin Quad Flat Package, Body 12 x 12 mm, Pitch 0.5 mm; Supplier 1: Digi-Key; Supplier Part Number 1: 336-2217-ND; Supplier 2: Mouser; Supplier Part Number 2: 634-SIM3U167-B-GQ; ADC 2: 12-bit, 16-ch., 250 ksps; Mounting Technology: Surface Mount; Code_JEDEC: MS-026; Code_IPC: J-STD-020; ComponentLink1Description: Manufacturer URL; ComponentLink1URL: http://www.silabs.com/; ComponentLink2Description: Datasheet; ComponentLink2URL: http://www.silabs.com/Support Documents/TechnicalDocs/SiM3U1xx.pdf; ComponentLink3Description: Package Specification; ComponentLink3URL: http://www.silabs.com/Support%20Documents/TechnicalDocs/SiM3L1xx.pdf
footprint SLAB-TQFP-80_N (QFP, 80-Leads, Body 12x12mm, Pitch 0.5mm, IPC Medium Density)
footprint SLAB-TQFP-80_L (QFP, 80-Leads, Body 12x12mm, Pitch 0.5mm, IPC High Density)
footprint SLAB-TQFP-80_M (QFP, 80-Leads, Body 12x12mm, Pitch 0.5mm, IPC Low Density)
part A pins: 1 PB4.5 (io), 2 PB4.4 (io), 3 PB4.3 (io), 6 PB4.2 (io), 7 PB4.1 (io), 8 PB4.0 (io), 9 PB3.11 (io), 10 PB3.10 (io), 11 PB3.9 (io), 12 PB3.8 (io), 13 PB3.7 (io), 14 PB3.6 (io), 15 PB3.5 (io), 16 PB3.4 (io), 17 PB3.3 (io), 18 PB3.2 (io), 19 PB3.1 (io), 20 PB3.0 (io), 21 PB2.14 (io), 22 PB2.13 (io), 23 PB2.12 (io), 24 PB2.11 (io), 25 PB2.10 (io), 26 PB2.9 (io), 27 PB2.8 (io), 28 PB2.7 (io), 29 PB2.6 (io), 30 PB2.5 (io), 31 PB2.4 (io), 34 PB2.3 (io), 35 PB2.2 (io), 36 PB2.1 (io), 37 PB2.0 (io), 38 PB1.15 (io), 39 PB1.14 (io), 40 PB1.13 (io), 41 PB1.12 (io), 42 PB1.11 (io), 43 PB1.10 (io), 44 SWDIO/TMS (io), 45 SWCLK/TCK (in), 46 PB1.9/TRACECLK (io), 47 PB1.8/ETM3 (io), 48 PB1.7/ETM2 (io), 50 PB1.6/ETM1 (io), 51 PB1.5/ETM0 (io), 52 PB1.4/TDI (io), 53 PB1.3/TDO/SWV (io), 54 PB1.2/TRST (io), 55 PB1.1 (io), 56 PB1.0 (io), 57 PB0.15 (io), 58 PB0.14 (io), 59 PB0.13 (io), 60 PB0.12 (io), 61 PB0.11 (io), 62 PB0.10 (io), 63 PB0.9 (io), 64 PB0.8 (io), 65 PB0.7 (io), 66 PB0.6 (io), 67 PB0.5 (io), 68 PB0.4 (io), 69 PB0.3 (io), 70 PB0.2 (io), 71 PB0.1 (io), 72 PB0.0 (io), 77 VBUS (in), 78 D+ (io), 79 D- (io), 80 ~{RESET} (in)
part B pins: 4 VSSHD (power), 5 VIOHD (power), 32 VIO (power), 33 VSS (power), 49 VIO (power), 73 VIO (power), 74 VDD (power), 75 VSS (power), 76 REGIN (power)